# Altium schematic symbol library TE_SMI.SchLib: 2 symbols
Pins are listed as number, name and electrical type; pins without a type are passive.

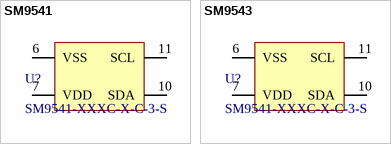
[diagram p0: symbols SM9541 to SM9543]

## SM9541
designator U?, comment SM9541-XXXC-X-C-3-S
footprint SM9541_L (10.3*10.3*2.6mm（长宽高）)
footprint SM9541_M (10.3*10.3*2.6mm（长宽高）)
footprint SM9541_N (10.3*10.3*2.6mm（长宽高）)
pins: 6 VSS, 7 VDD, 10 SDA, 11 SCL

## SM9543
designator U?, comment SM9541-XXXC-X-C-3-S
footprint SM9541_L (10.3*10.3*2.6mm（长宽高）)
footprint SM9541_M (10.3*10.3*2.6mm（长宽高）)
footprint SM9541_N (10.3*10.3*2.6mm（长宽高）)
pins: 6 VSS, 7 VDD, 10 SDA, 11 SCL